# Altium footprint library PcbLib1.PcbLib: 25 footprints (part 2 of 2)
Each footprint in its own frame and in the unit in brackets; x right, y up, seen from the top. Pads: shape width x height; smd on the part's side, far side on the other; paste and mask are expansions set on the pad; w line width, h text height; cw(c..) or ccw(c..) is an arc to the next point about the centre after c.
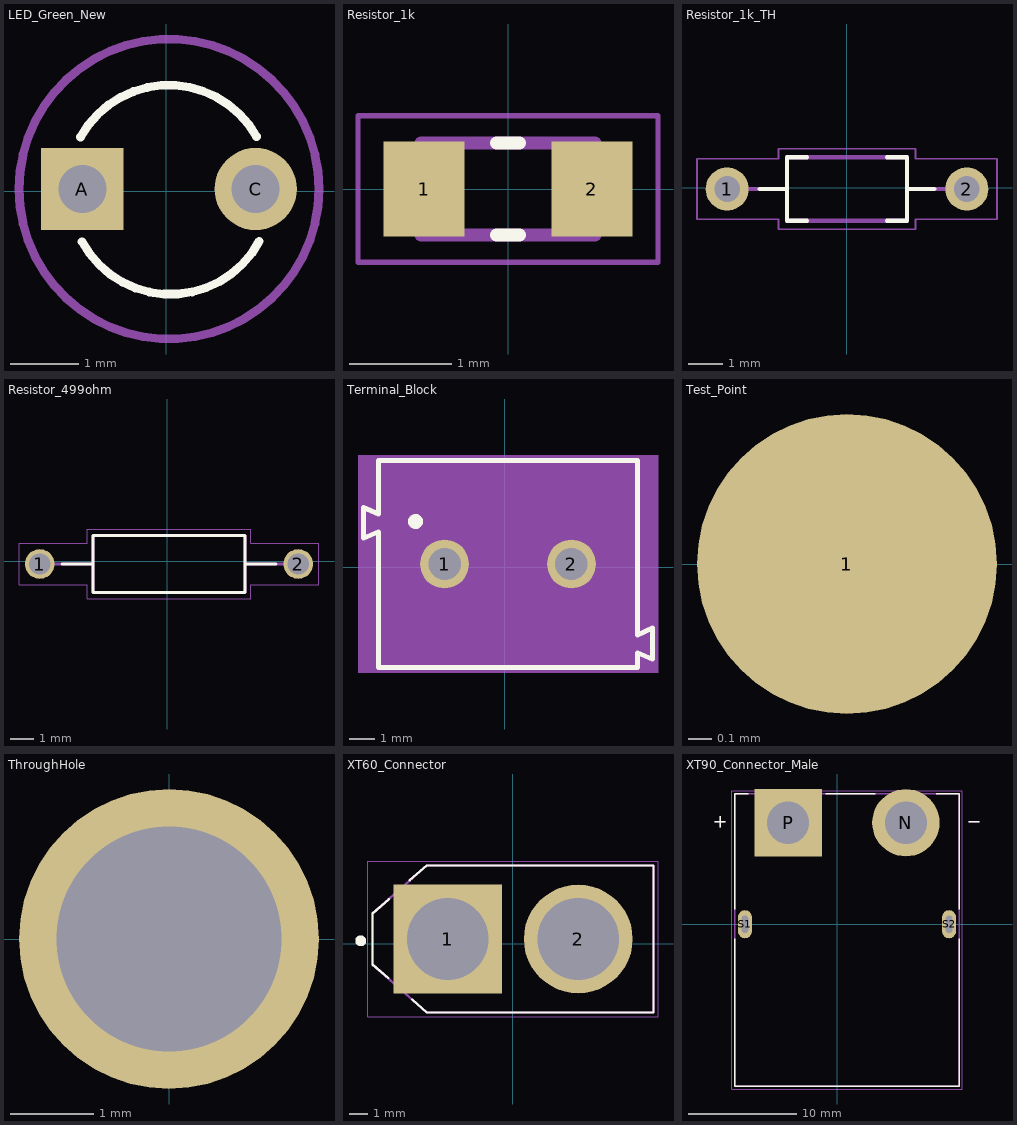
[diagram p1: the footprints below, top view; thin cyan lines are the x and y axes]

## LED_Green_New [mm]
pads (2):
  rect 1.208x1.208 hole 0.7: A(-1.229,0.03)
  round 1.208 hole 0.7: C(1.311,0.03)
Top Overlay:
  lines w0.127: -1.257,0.791 cw(c0.036,0.075) 1.325,0.799 ; -1.236,-0.742 ccw(c0.063,-0.036) 1.366,-0.735
Mechanical 15:
  circle w0.127: c0.041,0.03 r2.2

## Resistor_1k [mm]
pads (2):
  rect 0.79x0.93 smd: 1(-0.82,0) 2(0.82,0)
Top Overlay:
  lines w0.127: -0.11,-0.45 0.11,-0.45 ; -0.11,0.45 0.11,0.45
Mechanical 13:
  lines w0.127: -0.85,-0.45 0.85,-0.45 0.85,0.45 -0.85,0.45 -0.85,-0.45
Mechanical 15:
  lines w0.05: -1.465,-0.715 1.465,-0.715 1.465,0.715 -1.465,0.715 -1.465,-0.715

## Resistor_1k_TH [mm]
pads (2):
  round 1.258 hole 0.75: 1(-3.486,-0.03) 2(3.514,-0.03)
Top Overlay:
  lines w0.127: -2.536,-0.03 -1.736,-0.03 ; -1.156,-0.955 -1.736,-0.955 -1.736,-0.03 ; -1.156,0.895 -1.736,0.895 -1.736,-0.03 ; 1.184,-0.955 1.764,-0.955 1.764,-0.03 ; 1.184,0.895 1.764,0.895 1.764,-0.03 ; 2.564,-0.03 1.764,-0.03
Mechanical 13:
  lines w0.127: -2.911,-0.03 -1.736,-0.03 ; 2.939,-0.03 1.764,-0.03 ; -1.736,-0.03 -1.736,-0.955 1.764,-0.955 1.764,-0.03 ; -1.736,-0.03 -1.736,0.895 1.764,0.895 1.764,-0.03
Mechanical 15:
  lines w0.05: -4.366,-0.91 -1.986,-0.91 -1.986,-1.205 2.014,-1.205 2.014,-0.91 4.394,-0.91 4.394,0.85 2.014,0.85 2.014,1.145 -1.986,1.145 -1.986,0.85 -4.366,0.85 -4.366,-0.91

## Resistor_499ohm [mm]
pads (2):
  round 1.24 hole 0.89: 1(-5.337,-0.111) 2(5.473,-0.111)
Top Overlay:
  lines w0.127: -4.397,-0.111 -3.107,-0.111 ; 3.243,-0.111 4.533,-0.111 ; -3.107,-1.306 -3.107,1.084 3.243,1.084 3.243,-1.306 -3.107,-1.306
Mechanical 13:
  lines w0.127: -5.337,-0.111 -3.107,-0.111 ; 3.243,-0.111 5.473,-0.111 ; -3.107,-1.306 3.243,-1.306 3.243,1.084 -3.107,1.084 -3.107,-1.306
Mechanical 15:
  lines w0.05: -6.207,-0.981 -3.357,-0.981 -3.357,-1.556 3.493,-1.556 3.493,-0.981 6.343,-0.981 6.343,0.759 3.493,0.759 3.493,1.334 -3.357,1.334 -3.357,0.759 -6.207,0.759 -6.207,-0.981

## Terminal_Block [mm]
pads (2):
  round 1.95 hole 1.3: 1(-2.413,0.127) 2(2.667,0.127)
Top Overlay:
  circle w0.4: c-3.573,1.827 r0.1
  lines w0.2: -5.653,1.157 -5.653,2.387 -5.053,2.127 -5.053,4.277 5.307,4.277 5.307,-2.713 5.907,-2.433 5.907,-3.683 5.307,-3.423 5.307,-4.023 -5.053,-4.023 -5.053,1.417 -5.653,1.157
Mechanical 13:
  lines w0.1: -5.553,1.257 -4.953,1.517 -4.953,-3.923 5.207,-3.923 5.207,-3.323 5.807,-3.583 5.807,-2.553 5.207,-2.813 5.207,4.177 -4.953,4.177 -4.953,2.027 -5.553,2.287 -5.553,1.257
Mechanical 15:
  region: 6.127,-4.223 -5.873,-4.223 -5.873,4.477 6.127,4.477

## Test_Point [mm]
pads (1):
  round 1.27 smd mask+0: 1(2.54,0)
3D body: height 0, standoff -0.02, extent 1.91,-0.634 3.175,0.634

## ThroughHole [mm]
pads (1):
  round 3.6 hole 2.7 paste-2.6: ""(0,0)

## XT60_Connector [mm]
pads (2):
  rect 6x6 hole 4.5: 1(-3.6,0.254)
  round 6 hole 4.5: 2(3.6,0.254)
Top Overlay:
  circle w0.3: c-8.4,0.154 r0.15
  lines w0.127: -6.886,-1.9 -7.75,-1.146 -7.75,1.654 -6.857,2.439 ; -5.689,3.499 -4.75,4.304 7.75,4.304 7.75,-3.796 -4.75,-3.796 -5.552,-3.088
Mechanical 13:
  lines w0.127: -7.75,-1.146 -4.75,-3.796 7.75,-3.796 7.75,4.304 -4.75,4.304 -7.75,1.654 -7.75,-1.146
Mechanical 15:
  lines w0.05: -8,-4.046 8,-4.046 8,4.554 -8,4.554 -8,-4.046

## XT90_Connector_Male [mm]
pads (4):
  round 6.24 hole 3.9: N(6.339,9.4)
  rect 6.24x6.24 hole 3.9: P(-4.561,9.4)
  oval 1.3x2.6 hole 0.6 slot 1.6 at 90 deg: S1(-8.561,0) S2(10.339,0)
Top Overlay:
  lines w0.127: -11.361,9.5 -10.361,9.5 ; -10.861,9 -10.861,10 ; -9.511,-1.35 -9.511,-15 11.289,-15 11.289,-1.35 ; -9.511,1.4 -9.511,12.1 -8.232,12.103 ; -1.058,12.103 3.489,12.1 ; 9.139,12.1 11.289,12.1 11.289,1.4 ; 12.139,9.5 13.139,9.5
Mechanical 13:
  lines w0.127: -11.361,9.5 -10.361,9.5 ; -10.861,9 -10.861,10 ; 12.139,9.5 13.139,9.5 ; -9.511,-15 -9.511,12.1 11.289,12.1 11.289,-15 -9.511,-15
Mechanical 15:
  lines w0.05: -9.761,-15.25 -9.761,12.35 11.539,12.35 11.539,-15.25 -9.761,-15.25
3D body "step_temp.STEP": height 10.3, standoff -3.2, extent -9.711,-15 11.489,12.1